# Altium schematic symbol library SCH - MCU - SI LABS - SI LABS EFM32TG840F8 64-PIN QFN 9X9.SchLib: 1 symbol
Pins are listed as number, name and electrical type; pins without a type are passive.

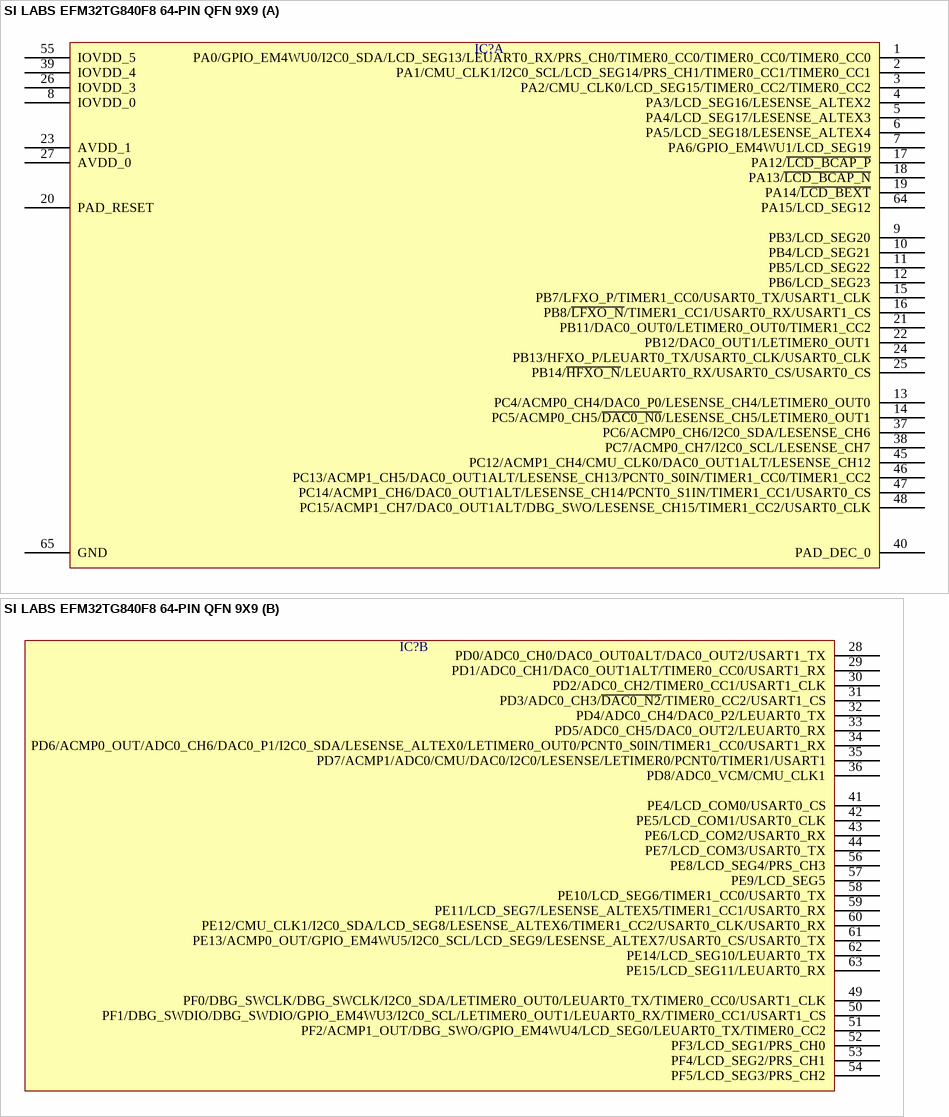
[diagram p0: symbol SI LABS EFM32TG840F8 64-PIN QFN 9X9]

## SI LABS EFM32TG840F8 64-PIN QFN 9X9
designator IC?  (value not drawn)
part A pins: 1 PA0/GPIO_EM4WU0/I2C0_SDA/LCD_SEG13/LEUART0_RX/PRS_CH0/TIMER0_CC0/TIMER0_CC0/TIMER0_CC0, 2 PA1/CMU_CLK1/I2C0_SCL/LCD_SEG14/PRS_CH1/TIMER0_CC1/TIMER0_CC1, 3 PA2/CMU_CLK0/LCD_SEG15/TIMER0_CC2/TIMER0_CC2, 4 PA3/LCD_SEG16/LESENSE_ALTEX2, 5 PA4/LCD_SEG17/LESENSE_ALTEX3, 6 PA5/LCD_SEG18/LESENSE_ALTEX4, 7 PA6/GPIO_EM4WU1/LCD_SEG19, 8 IOVDD_0, 9 PB3/LCD_SEG20, 10 PB4/LCD_SEG21, 11 PB5/LCD_SEG22, 12 PB6/LCD_SEG23, 13 PC4/ACMP0_CH4/DAC0_P0/LESENSE_CH4/LETIMER0_OUT0, 14 PC5/ACMP0_CH5/~{DAC0_N0}/LESENSE_CH5/LETIMER0_OUT1, 15 PB7/LFXO_P/TIMER1_CC0/USART0_TX/USART1_CLK, 16 PB8/~{LFXO_N}/TIMER1_CC1/USART0_RX/USART1_CS, 17 PA12/~{LCD_BCAP_P}, 18 PA13/~{LCD_BCAP_N}, 19 PA14/~{LCD_BEXT}, 20 PAD_RESET, 21 PB11/DAC0_OUT0/LETIMER0_OUT0/TIMER1_CC2, 22 PB12/DAC0_OUT1/LETIMER0_OUT1, 23 AVDD_1, 24 PB13/HFXO_P/LEUART0_TX/USART0_CLK/USART0_CLK, 25 PB14/~{HFXO_N}/LEUART0_RX/USART0_CS/USART0_CS, 26 IOVDD_3, 27 AVDD_0, 37 PC6/ACMP0_CH6/I2C0_SDA/LESENSE_CH6, 38 PC7/ACMP0_CH7/I2C0_SCL/LESENSE_CH7, 39 IOVDD_4, 40 PAD_DEC_0, 45 PC12/ACMP1_CH4/CMU_CLK0/DAC0_OUT1ALT/LESENSE_CH12, 46 PC13/ACMP1_CH5/DAC0_OUT1ALT/LESENSE_CH13/PCNT0_S0IN/TIMER1_CC0/TIMER1_CC2, 47 PC14/ACMP1_CH6/DAC0_OUT1ALT/LESENSE_CH14/PCNT0_S1IN/TIMER1_CC1/USART0_CS, 48 PC15/ACMP1_CH7/DAC0_OUT1ALT/DBG_SWO/LESENSE_CH15/TIMER1_CC2/USART0_CLK, 55 IOVDD_5, 64 PA15/LCD_SEG12, 65 GND
part B pins: 28 PD0/ADC0_CH0/DAC0_OUT0ALT/DAC0_OUT2/USART1_TX, 29 PD1/ADC0_CH1/DAC0_OUT1ALT/TIMER0_CC0/USART1_RX, 30 PD2/ADC0_CH2/TIMER0_CC1/USART1_CLK, 31 PD3/ADC0_CH3/~{DAC0_N2}/TIMER0_CC2/USART1_CS, 32 PD4/ADC0_CH4/DAC0_P2/LEUART0_TX, 33 PD5/ADC0_CH5/DAC0_OUT2/LEUART0_RX, 34 PD6/ACMP0_OUT/ADC0_CH6/DAC0_P1/I2C0_SDA/LESENSE_ALTEX0/LETIMER0_OUT0/PCNT0_S0IN/TIMER1_CC0/USART1_RX, 35 PD7/ACMP1/ADC0/CMU/DAC0/I2C0/LESENSE/LETIMER0/PCNT0/TIMER1/USART1, 36 PD8/ADC0_VCM/CMU_CLK1, 41 PE4/LCD_COM0/USART0_CS, 42 PE5/LCD_COM1/USART0_CLK, 43 PE6/LCD_COM2/USART0_RX, 44 PE7/LCD_COM3/USART0_TX, 49 PF0/DBG_SWCLK/DBG_SWCLK/I2C0_SDA/LETIMER0_OUT0/LEUART0_TX/TIMER0_CC0/USART1_CLK, 50 PF1/DBG_SWDIO/DBG_SWDIO/GPIO_EM4WU3/I2C0_SCL/LETIMER0_OUT1/LEUART0_RX/TIMER0_CC1/USART1_CS, 51 PF2/ACMP1_OUT/DBG_SWO/GPIO_EM4WU4/LCD_SEG0/LEUART0_TX/TIMER0_CC2, 52 PF3/LCD_SEG1/PRS_CH0, 53 PF4/LCD_SEG2/PRS_CH1, 54 PF5/LCD_SEG3/PRS_CH2, 56 PE8/LCD_SEG4/PRS_CH3, 57 PE9/LCD_SEG5, 58 PE10/LCD_SEG6/TIMER1_CC0/USART0_TX, 59 PE11/LCD_SEG7/LESENSE_ALTEX5/TIMER1_CC1/USART0_RX, 60 PE12/CMU_CLK1/I2C0_SDA/LCD_SEG8/LESENSE_ALTEX6/TIMER1_CC2/USART0_CLK/USART0_RX, 61 PE13/ACMP0_OUT/GPIO_EM4WU5/I2C0_SCL/LCD_SEG9/LESENSE_ALTEX7/USART0_CS/USART0_TX, 62 PE14/LCD_SEG10/LEUART0_TX, 63 PE15/LCD_SEG11/LEUART0_RX